# EAGLE library part KSZ9897RTXC (library KSZ9897RTXC)
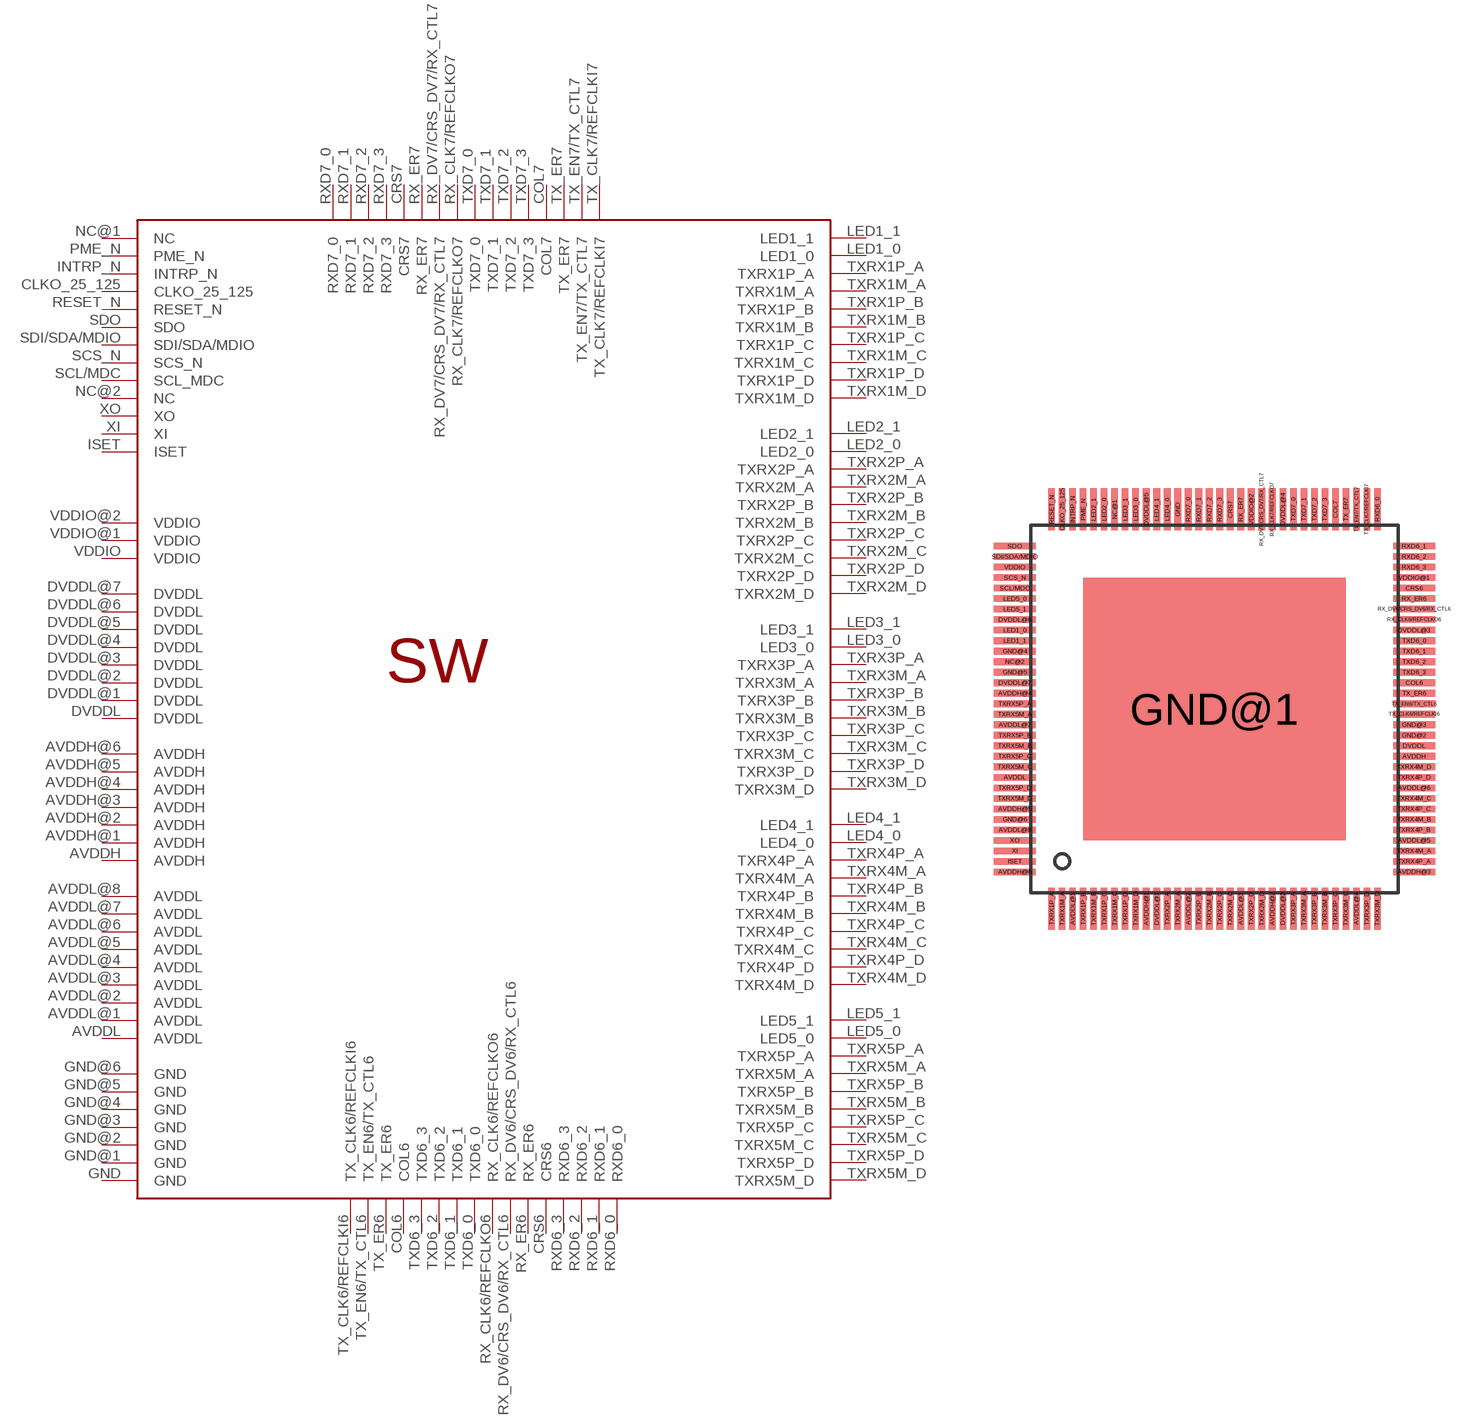
[diagram p0: symbol with the pads of KSZ9897RTXC; footprint KSZ9897RTXC]

Designator prefix SW

## KSZ9897RTXC  [KSZ9897RTXC]
AVDDH  AVDDH
AVDDH@1  AVDDH
AVDDH@2  AVDDH
AVDDH@3  AVDDH
AVDDH@4  AVDDH
AVDDH@5  AVDDH
AVDDH@6  AVDDH
AVDDL  AVDDL
AVDDL@1  AVDDL
AVDDL@2  AVDDL
AVDDL@3  AVDDL
AVDDL@4  AVDDL
AVDDL@5  AVDDL
AVDDL@6  AVDDL
AVDDL@7  AVDDL
AVDDL@8  AVDDL
CLKO_25_125  CLKO_25_125
COL6  COL6
COL7  COL7
CRS6  CRS6
CRS7  CRS7
DVDDL  DVDDL
DVDDL@1  DVDDL
DVDDL@2  DVDDL
DVDDL@3  DVDDL
DVDDL@4  DVDDL
DVDDL@5  DVDDL
DVDDL@6  DVDDL
DVDDL@7  DVDDL
GND  GND
GND@1  GND
GND@2  GND
GND@3  GND
GND@4  GND
GND@5  GND
GND@6  GND
INTRP_N  INTRP_N
ISET  ISET
LED1_0  LED1_0
LED1_1  LED1_1
LED2_0  LED2_0
LED2_1  LED2_1
LED3_0  LED3_0
LED3_1  LED3_1
LED4_0  LED4_0
LED4_1  LED4_1
LED5_0  LED5_0
LED5_1  LED5_1
NC@1  NC
NC@2  NC
PME_N  PME_N
RESET_N  RESET_N
RX_CLK6/REFCLKO6  RX_CLK6/REFCLKO6
RX_CLK7/REFCLKO7  RX_CLK7/REFCLKO7
RX_DV6/CRS_DV6/RX_CTL6  RX_DV6/CRS_DV6/RX_CTL6
RX_DV7/CRS_DV7/RX_CTL7  RX_DV7/CRS_DV7/RX_CTL7
RX_ER6  RX_ER6
RX_ER7  RX_ER7
RXD6_0  RXD6_0
RXD6_1  RXD6_1
RXD6_2  RXD6_2
RXD6_3  RXD6_3
RXD7_0  RXD7_0
RXD7_1  RXD7_1
RXD7_2  RXD7_2
RXD7_3  RXD7_3
SCL/MDC  SCL_MDC
SCS_N  SCS_N
SDI/SDA/MDIO  SDI/SDA/MDIO
SDO  SDO
TX_CLK6/REFCLKI6  TX_CLK6/REFCLKI6
TX_CLK7/REFCLKI7  TX_CLK7/REFCLKI7
TX_EN6/TX_CTL6  TX_EN6/TX_CTL6
TX_EN7/TX_CTL7  TX_EN7/TX_CTL7
TX_ER6  TX_ER6
TX_ER7  TX_ER7
TXD6_0  TXD6_0
TXD6_1  TXD6_1
TXD6_2  TXD6_2
TXD6_3  TXD6_3
TXD7_0  TXD7_0
TXD7_1  TXD7_1
TXD7_2  TXD7_2
TXD7_3  TXD7_3
TXRX1M_A  TXRX1M_A
TXRX1M_B  TXRX1M_B
TXRX1M_C  TXRX1M_C
TXRX1M_D  TXRX1M_D
TXRX1P_A  TXRX1P_A
TXRX1P_B  TXRX1P_B
TXRX1P_C  TXRX1P_C
TXRX1P_D  TXRX1P_D
TXRX2M_A  TXRX2M_A
TXRX2M_B  TXRX2M_B
TXRX2M_C  TXRX2M_C
TXRX2M_D  TXRX2M_D
TXRX2P_A  TXRX2P_A
TXRX2P_B  TXRX2P_B
TXRX2P_C  TXRX2P_C
TXRX2P_D  TXRX2P_D
TXRX3M_A  TXRX3M_A
TXRX3M_B  TXRX3M_B
TXRX3M_C  TXRX3M_C
TXRX3M_D  TXRX3M_D
TXRX3P_A  TXRX3P_A
TXRX3P_B  TXRX3P_B
TXRX3P_C  TXRX3P_C
TXRX3P_D  TXRX3P_D
TXRX4M_A  TXRX4M_A
TXRX4M_B  TXRX4M_B
TXRX4M_C  TXRX4M_C
TXRX4M_D  TXRX4M_D
TXRX4P_A  TXRX4P_A
TXRX4P_B  TXRX4P_B
TXRX4P_C  TXRX4P_C
TXRX4P_D  TXRX4P_D
TXRX5M_A  TXRX5M_A
TXRX5M_B  TXRX5M_B
TXRX5M_C  TXRX5M_C
TXRX5M_D  TXRX5M_D
TXRX5P_A  TXRX5P_A
TXRX5P_B  TXRX5P_B
TXRX5P_C  TXRX5P_C
TXRX5P_D  TXRX5P_D
VDDIO  VDDIO
VDDIO@1  VDDIO
VDDIO@2  VDDIO
XI  XI
XO  XO

## Footprint KSZ9897RTXC (pad centres in mm)
smd 1.6 x 0.25: AVDDH 7.6,-1.8; AVDDH@3 7.6,-6.2; AVDDH@4 -7.6,0.6; AVDDH@5 -7.6,-3.8; AVDDH@6 -7.6,-6.2; AVDDL -7.6,-2.6; AVDDL@5 7.6,-5; AVDDL@6 7.6,-3; AVDDL@7 -7.6,-0.6; AVDDL@8 -7.6,-4.6; COL6 7.6,1; CRS6 7.6,4.6; DVDDL 7.6,-1.4; DVDDL@3 7.6,3; DVDDL@6 -7.6,3.4; DVDDL@7 -7.6,1; GND@2 7.6,-1; GND@3 7.6,-0.6; GND@4 -7.6,2.2; GND@5 -7.6,1.4; GND@6 -7.6,-4.2; ISET -7.6,-5.8; LED1_0 -7.6,3; LED1_1 -7.6,2.6; LED5_0 -7.6,4.2; LED5_1 -7.6,3.8; NC@2 -7.6,1.8; RX_CLK6/REFCLKO6 7.6,3.4; RX_DV6/CRS_DV6/RX_CTL6 7.6,3.8; RX_ER6 7.6,4.2; RXD6_1 7.6,6.2; RXD6_2 7.6,5.8; RXD6_3 7.6,5.4; SCL/MDC -7.6,4.6; SCS_N -7.6,5; SDI/SDA/MDIO -7.6,5.8; SDO -7.6,6.2; TX_CLK6/REFCLKI6 7.6,-0.2; TX_EN6/TX_CTL6 7.6,0.2; TX_ER6 7.6,0.6; TXD6_0 7.6,2.6; TXD6_1 7.6,2.2; TXD6_2 7.6,1.8; TXD6_3 7.6,1.4; TXRX4M_A 7.6,-5.4; TXRX4M_B 7.6,-4.2; TXRX4M_C 7.6,-3.4; TXRX4M_D 7.6,-2.2; TXRX4P_A 7.6,-5.8; TXRX4P_B 7.6,-4.6; TXRX4P_C 7.6,-3.8; TXRX4P_D 7.6,-2.6; TXRX5M_A -7.6,-0.2; TXRX5M_B -7.6,-1.4; TXRX5M_C -7.6,-2.2; TXRX5M_D -7.6,-3.4; TXRX5P_A -7.6,0.2; TXRX5P_B -7.6,-1; TXRX5P_C -7.6,-1.8; TXRX5P_D -7.6,-3; VDDIO -7.6,5.4; VDDIO@1 7.6,5; XI -7.6,-5.4; XO -7.6,-5
smd 0.25 x 1.6: AVDDH@1 -2.6,-7.6; AVDDH@2 2.2,-7.6; AVDDL@1 -5.4,-7.6; AVDDL@2 -1,-7.6; AVDDL@3 1,-7.6; AVDDL@4 5.4,-7.6; CLKO_25_125 -5.8,7.6; COL7 4.6,7.6; CRS7 0.6,7.6; DVDDL@1 -2.2,-7.6; DVDDL@2 2.6,-7.6; DVDDL@4 2.6,7.6; DVDDL@5 -2.6,7.6; GND -1.4,7.6; INTRP_N -5.4,7.6; LED2_0 -4.2,7.6; LED2_1 -4.6,7.6; LED3_0 -3,7.6; LED3_1 -3.4,7.6; LED4_0 -1.8,7.6; LED4_1 -2.2,7.6; NC@1 -3.8,7.6; PME_N -5,7.6; RESET_N -6.2,7.6; RX_CLK7/REFCLKO7 2.2,7.6; RX_DV7/CRS_DV7/RX_CTL7 1.8,7.6; RX_ER7 1,7.6; RXD6_0 6.2,7.6; RXD7_0 -1,7.6; RXD7_1 -0.6,7.6; RXD7_2 -0.2,7.6; RXD7_3 0.2,7.6; TX_CLK7/REFCLKI7 5.8,7.6; TX_EN7/TX_CTL7 5.4,7.6; TX_ER7 5,7.6; TXD7_0 3,7.6; TXD7_1 3.4,7.6; TXD7_2 3.8,7.6; TXD7_3 4.2,7.6; TXRX1M_A -5.8,-7.6; TXRX1M_B -4.6,-7.6; TXRX1M_C -3.8,-7.6; TXRX1M_D -3,-7.6; TXRX1P_A -6.2,-7.6; TXRX1P_B -5,-7.6; TXRX1P_C -4.2,-7.6; TXRX1P_D -3.4,-7.6; TXRX2M_A -1.4,-7.6; TXRX2M_B -0.2,-7.6; TXRX2M_C 0.6,-7.6; TXRX2M_D 1.8,-7.6; TXRX2P_A -1.8,-7.6; TXRX2P_B -0.6,-7.6; TXRX2P_C 0.2,-7.6; TXRX2P_D 1.4,-7.6; TXRX3M_A 3.4,-7.6; TXRX3M_B 4.2,-7.6; TXRX3M_C 5,-7.6; TXRX3M_D 6.2,-7.6; TXRX3P_A 3,-7.6; TXRX3P_B 3.8,-7.6; TXRX3P_C 4.6,-7.6; TXRX3P_D 5.8,-7.6; VDDIO@2 1.4,7.6
smd 10 x 10: GND@1 0,0